# Altium schematic symbol library PowerJack.SchLib: 1 symbol
Pins are listed as number, name and electrical type; pins without a type are passive.

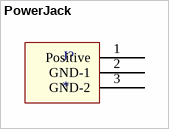
[diagram p0: symbol PowerJack]

## PowerJack
designator J?
footprint PJ-002A
pins: 1 Positive (power), 2 GND-1 (power), 3 GND-2 (power)